# Altium footprint library SS8550_PNP.PcbLib: 1 footprints
Each footprint in its own frame and in the unit in brackets; x right, y up, seen from the top. Pads: shape width x height; smd on the part's side, far side on the other; paste and mask are expansions set on the pad; w line width, h text height; cw(c..) or ccw(c..) is an arc to the next point about the centre after c.
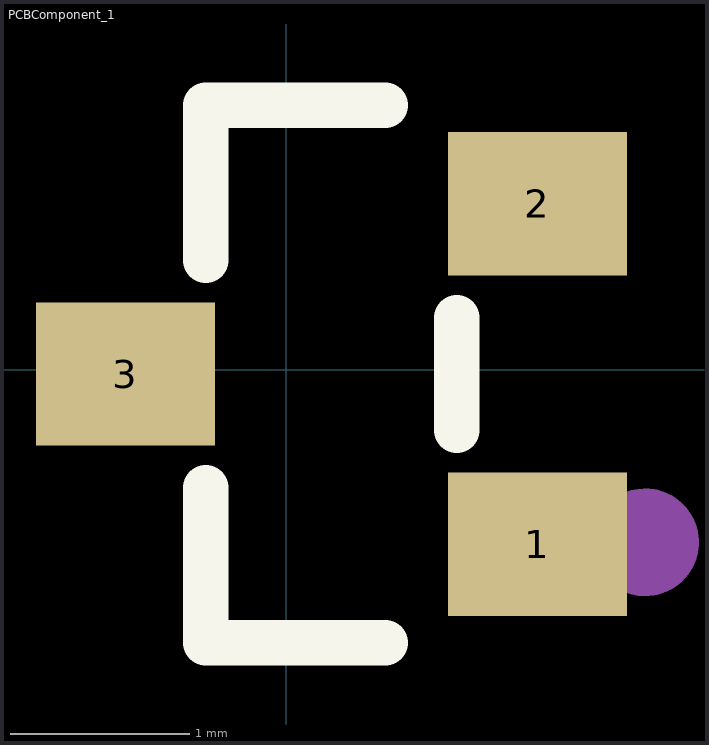
[diagram p0: the footprint, top view; thin cyan lines are the x and y axes]

## PCBComponent_1 [mm]
pads (3):
  rect 1x0.8 smd paste+0 mask+0.051: 1(1.403,-0.974) 2(1.403,0.926) 3(-0.897,-0.024)
Top Overlay:
  lines w0.254: -0.447,-0.66 -0.447,-1.524 0.553,-1.524 ; -0.447,0.612 -0.447,1.476 0.553,1.476 ; 0.953,-0.338 0.953,0.29
Mechanical 15:
  circle w0.3: c2.006,-0.964 r0.15